# Altium footprint library lqfp.PcbLib: 7 footprints
Each footprint in its own frame and in the unit in brackets; x right, y up, seen from the top. Pads: shape width x height; smd on the part's side, far side on the other; paste and mask are expansions set on the pad; w line width, h text height; cw(c..) or ccw(c..) is an arc to the next point about the centre after c.
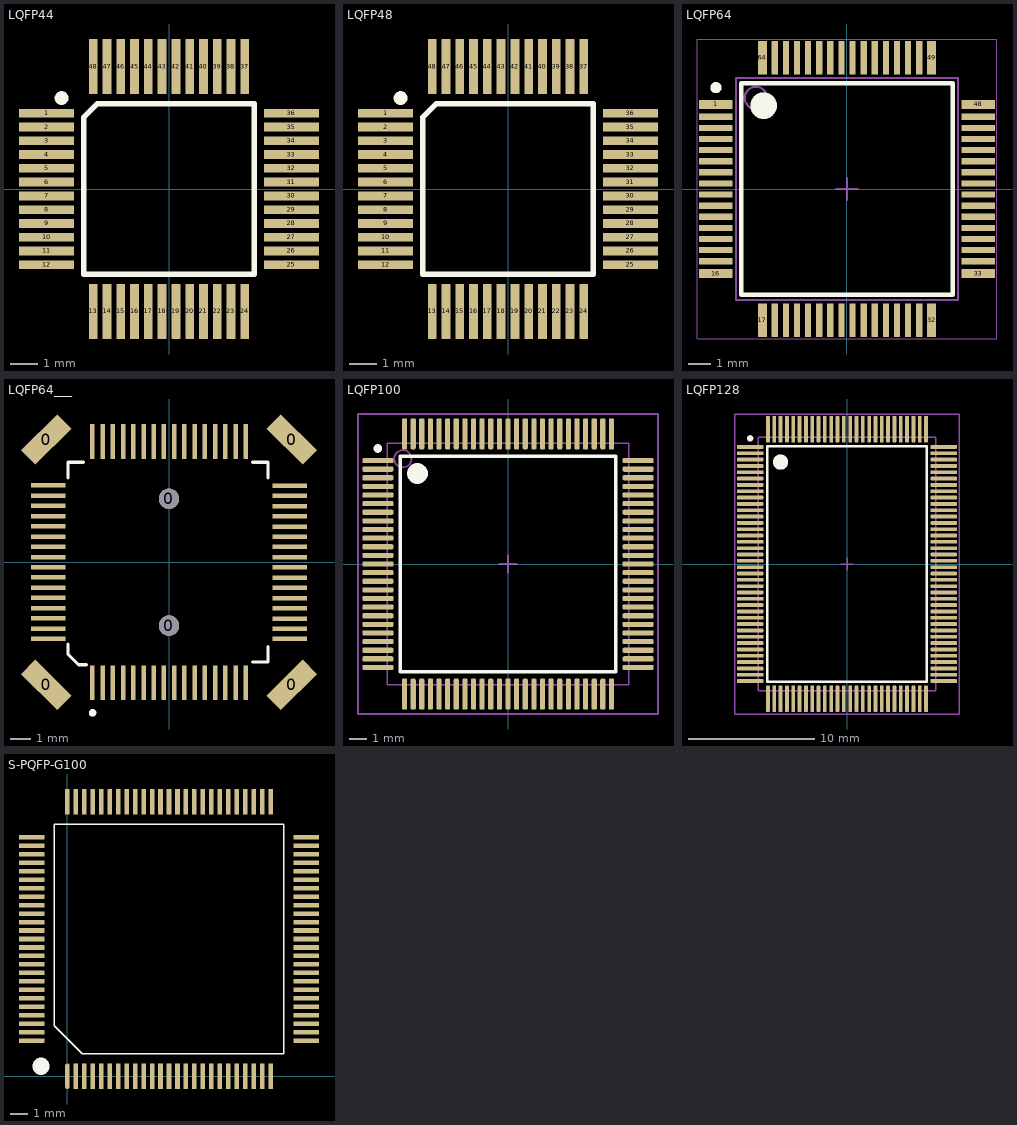
[diagram p0: the footprints below, top view; thin cyan lines are the x and y axes]

## LQFP44 [mm] "QFP; 44 Leads"
height 1.6
pads (48):
  rect 2x0.32 smd: 1(-4.445,2.75) 2(-4.445,2.25) 3(-4.445,1.75) 4(-4.445,1.25) 5(-4.445,0.75) 6(-4.445,0.25) 7(-4.445,-0.25) 8(-4.445,-0.75) 9(-4.445,-1.25) 10(-4.445,-1.75) 11(-4.445,-2.25) 12(-4.445,-2.75) 25(4.445,-2.75) 26(4.445,-2.25) 27(4.445,-1.75) 28(4.445,-1.25) 29(4.445,-0.75) 30(4.445,-0.25) 31(4.445,0.25) 32(4.445,0.75) 33(4.445,1.25) 34(4.445,1.75) 35(4.445,2.25) 36(4.445,2.75)
  rect 0.32x2 smd: 13(-2.75,-4.445) 14(-2.25,-4.445) 15(-1.75,-4.445) 16(-1.25,-4.445) 17(-0.75,-4.445) 18(-0.25,-4.445) 19(0.25,-4.445) 20(0.75,-4.445) 21(1.25,-4.445) 22(1.75,-4.445) 23(2.25,-4.445) 24(2.75,-4.445) 37(2.75,4.445) 38(2.25,4.445) 39(1.75,4.445) 40(1.25,4.445) 41(0.75,4.445) 42(0.25,4.445) 43(-0.25,4.445) 44(-0.75,4.445) 45(-1.25,4.445) 46(-1.75,4.445) 47(-2.25,4.445) 48(-2.75,4.445)
Top Overlay:
  circle w0.25: c-3.9,3.3 r0.125
  lines w0.2: -3.1,-3.1 3.1,-3.1 3.1,3.1 -2.6,3.1 -3.1,2.6 -3.1,-3.1
3D body "User Library-sot389-1.STEP": height 15.95, standoff 14.44, extent -3.556,-4.641 8.519,7.435

## LQFP48 [mm] "QFP; 48 Leads; Body 7 x 7 mm; Pitch 0.5 mm"
height 1.6
pads (48):
  rect 2x0.32 smd: 1(-4.445,2.75) 2(-4.445,2.25) 3(-4.445,1.75) 4(-4.445,1.25) 5(-4.445,0.75) 6(-4.445,0.25) 7(-4.445,-0.25) 8(-4.445,-0.75) 9(-4.445,-1.25) 10(-4.445,-1.75) 11(-4.445,-2.25) 12(-4.445,-2.75) 25(4.445,-2.75) 26(4.445,-2.25) 27(4.445,-1.75) 28(4.445,-1.25) 29(4.445,-0.75) 30(4.445,-0.25) 31(4.445,0.25) 32(4.445,0.75) 33(4.445,1.25) 34(4.445,1.75) 35(4.445,2.25) 36(4.445,2.75)
  rect 0.32x2 smd: 13(-2.75,-4.445) 14(-2.25,-4.445) 15(-1.75,-4.445) 16(-1.25,-4.445) 17(-0.75,-4.445) 18(-0.25,-4.445) 19(0.25,-4.445) 20(0.75,-4.445) 21(1.25,-4.445) 22(1.75,-4.445) 23(2.25,-4.445) 24(2.75,-4.445) 37(2.75,4.445) 38(2.25,4.445) 39(1.75,4.445) 40(1.25,4.445) 41(0.75,4.445) 42(0.25,4.445) 43(-0.25,4.445) 44(-0.75,4.445) 45(-1.25,4.445) 46(-1.75,4.445) 47(-2.25,4.445) 48(-2.75,4.445)
Top Overlay:
  circle w0.25: c-3.9,3.3 r0.125
  lines w0.2: -3.1,-3.1 -3.1,2.6 -2.6,3.1 3.1,3.1 3.1,-3.1 -3.1,-3.1
3D body "User Library-LQFP48_Grid_0_5.STEP": height 1.6, standoff 0, extent -4.5,-4.5 4.5,4.5

## LQFP64 [mm] "Thin QFP, 64-Leads, Body 10x10mm, Pitch 0.5mm, NXP Recommended"
height 1.6
pads (64):
  rect 1.5x0.4 smd: 1(-5.9,3.81) 16(-5.9,-3.81) 33(5.9,-3.81) 48(5.9,3.81)
  rect 1.5x0.28 smd: 2(-5.9,3.25) 3(-5.9,2.75) 4(-5.9,2.25) 5(-5.9,1.75) 6(-5.9,1.25) 7(-5.9,0.75) 8(-5.9,0.25) 9(-5.9,-0.25) 10(-5.9,-0.75) 11(-5.9,-1.25) 12(-5.9,-1.75) 13(-5.9,-2.25) 14(-5.9,-2.75) 15(-5.9,-3.25) 34(5.9,-3.25) 35(5.9,-2.75) 36(5.9,-2.25) 37(5.9,-1.75) 38(5.9,-1.25) 39(5.9,-0.75) 40(5.9,-0.25) 41(5.9,0.25) 42(5.9,0.75) 43(5.9,1.25) 44(5.9,1.75) 45(5.9,2.25) 46(5.9,2.75) 47(5.9,3.25)
  rect 0.4x1.5 smd: 17(-3.81,-5.9) 32(3.81,-5.9) 49(3.81,5.9) 64(-3.81,5.9)
  rect 0.28x1.5 smd: 18(-3.25,-5.9) 19(-2.75,-5.9) 20(-2.25,-5.9) 21(-1.75,-5.9) 22(-1.25,-5.9) 23(-0.75,-5.9) 24(-0.25,-5.9) 25(0.25,-5.9) 26(0.75,-5.9) 27(1.25,-5.9) 28(1.75,-5.9) 29(2.25,-5.9) 30(2.75,-5.9) 31(3.25,-5.9) 50(3.25,5.9) 51(2.75,5.9) 52(2.25,5.9) 53(1.75,5.9) 54(1.25,5.9) 55(0.75,5.9) 56(0.25,5.9) 57(-0.25,5.9) 58(-0.75,5.9) 59(-1.25,5.9) 60(-1.75,5.9) 61(-2.25,5.9) 62(-2.75,5.9) 63(-3.25,5.9)
Top Overlay:
  circle w0.25: c-5.9,4.56 r0.125
  circle w0.6: c-3.75,3.75 r0.3
  lines w0.2: -4.75,-4.75 -4.75,4.75 4.75,4.75 4.75,-4.75 -4.75,-4.75
Mechanical 13:
  circle w0.1: c-4.1,4.1 r0.5
  lines w0.1: -5,-5 -5,5 5,5 5,-5 -5,-5
Mechanical 15:
  lines w0.05: -6.75,-6.75 -6.75,6.75 6.75,6.75 6.75,-6.75 -6.75,-6.75
  lines w0.1: -0.5,0 0.5,0 ; 0,-0.5 0,0.5
3D body "User Library-lqpf64.step": height 1.5, standoff 0.02, extent -6,-6 6,6

## LQFP64___ [mm]
height 1.6
pads (70):
  rect 1x2.5 smd rot 45: 0(-6,-6) 0(6,6)
  rect 1x2.5 smd rot 135: 0(-6,6) 0(6,-6)
  round 1 hole 1 unplated: 0(0,-3.1) 0(0,3.1)
  rect 0.22x1.7 smd: 1(-3.747,-5.901) 2(-3.247,-5.901) 3(-2.747,-5.901) 4(-2.247,-5.901) 5(-1.747,-5.901) 6(-1.247,-5.901) 7(-0.747,-5.901) 8(-0.247,-5.901) 9(0.253,-5.901) 10(0.753,-5.901) 11(1.253,-5.901) 12(1.753,-5.901) 13(2.253,-5.901) 14(2.753,-5.901) 15(3.253,-5.901) 16(3.753,-5.901) 33(3.753,5.902) 34(3.253,5.902) 35(2.753,5.902) 36(2.253,5.902) 37(1.753,5.902) 38(1.253,5.902) 39(0.753,5.902) 40(0.253,5.902) 41(-0.247,5.902) 42(-0.747,5.902) 43(-1.247,5.902) 44(-1.747,5.902) 45(-2.247,5.902) 46(-2.747,5.902) 47(-3.247,5.902) 48(-3.746,5.901)
  rect 1.7x0.22 smd: 17(5.901,-3.753) 18(5.901,-3.253) 19(5.901,-2.753) 20(5.901,-2.253) 21(5.901,-1.753) 22(5.901,-1.253) 23(5.901,-0.753) 24(5.901,-0.253) 25(5.901,0.247) 26(5.901,0.747) 27(5.901,1.247) 28(5.901,1.747) 29(5.901,2.247) 30(5.901,2.747) 31(5.901,3.247) 32(5.901,3.747) 49(-5.902,3.753) 50(-5.902,3.253) 51(-5.902,2.753) 52(-5.902,2.253) 53(-5.902,1.753) 54(-5.902,1.253) 55(-5.902,0.753) 56(-5.902,0.253) 57(-5.902,-0.247) 58(-5.902,-0.747) 59(-5.902,-1.247) 60(-5.902,-1.747) 61(-5.902,-2.247) 62(-5.902,-2.746) 63(-5.902,-3.246) 64(-5.902,-3.746)
Top Overlay:
  circle w0.25: c-3.742,-7.366 r0.059
  lines w0.152: -4.938,-4 -4.938,-4.508 -4.43,-5.016 -4.049,-5.016 ; -4.938,4.128 -4.938,4.89 -4.176,4.89 ; 4.079,-4.889 4.841,-4.889 4.841,-4.127 ; 4.079,4.89 4.841,4.89 4.841,4.128
3D body "User Library-lqpf64.step": height 1.5, standoff 0.02, extent -6,-6 6,6

## LQFP100 [mm] "Thin QFP, 100-Leads, Body 14x14mm, Pitch 0.5mm, IPC Medium Density"
height 1.6
pads (100):
  rrect50% 1.8x0.3 smd: 1(-7.55,6) 2(-7.55,5.5) 3(-7.55,5) 4(-7.55,4.5) 5(-7.55,4) 6(-7.55,3.5) 7(-7.55,3) 8(-7.55,2.5) 9(-7.55,2) 10(-7.55,1.5) 11(-7.55,1) 12(-7.55,0.5) 13(-7.55,0) 14(-7.55,-0.5) 15(-7.55,-1) 16(-7.55,-1.5) 17(-7.55,-2) 18(-7.55,-2.5) 19(-7.55,-3) 20(-7.55,-3.5) 21(-7.55,-4) 22(-7.55,-4.5) 23(-7.55,-5) 24(-7.55,-5.5) 25(-7.55,-6) 51(7.55,-6) 52(7.55,-5.5) 53(7.55,-5) 54(7.55,-4.5) 55(7.55,-4) 56(7.55,-3.5) 57(7.55,-3) 58(7.55,-2.5) 59(7.55,-2) 60(7.55,-1.5) 61(7.55,-1) 62(7.55,-0.5) 63(7.55,0) 64(7.55,0.5) 65(7.55,1) 66(7.55,1.5) 67(7.55,2) 68(7.55,2.5) 69(7.55,3) 70(7.55,3.5) 71(7.55,4) 72(7.55,4.5) 73(7.55,5) 74(7.55,5.5) 75(7.55,6)
  rrect50% 0.3x1.8 smd: 26(-6,-7.55) 27(-5.5,-7.55) 28(-5,-7.55) 29(-4.5,-7.55) 30(-4,-7.55) 31(-3.5,-7.55) 32(-3,-7.55) 33(-2.5,-7.55) 34(-2,-7.55) 35(-1.5,-7.55) 36(-1,-7.55) 37(-0.5,-7.55) 38(0,-7.55) 39(0.5,-7.55) 40(1,-7.55) 41(1.5,-7.55) 42(2,-7.55) 43(2.5,-7.55) 44(3,-7.55) 45(3.5,-7.55) 46(4,-7.55) 47(4.5,-7.55) 48(5,-7.55) 49(5.5,-7.55) 50(6,-7.55) 76(6,7.55) 77(5.5,7.55) 78(5,7.55) 79(4.5,7.55) 80(4,7.55) 81(3.5,7.55) 82(3,7.55) 83(2.5,7.55) 84(2,7.55) 85(1.5,7.55) 86(1,7.55) 87(0.5,7.55) 88(0,7.55) 89(-0.5,7.55) 90(-1,7.55) 91(-1.5,7.55) 92(-2,7.55) 93(-2.5,7.55) 94(-3,7.55) 95(-3.5,7.55) 96(-4,7.55) 97(-4.5,7.55) 98(-5,7.55) 99(-5.5,7.55) 100(-6,7.55)
Top Overlay:
  circle w0.25: c-7.55,6.7 r0.125
  circle w0.6: c-5.25,5.25 r0.3
  lines w0.2: -6.25,-6.25 -6.25,6.25 6.25,6.25 6.25,-6.25 -6.25,-6.25
Mechanical 13:
  circle w0.1: c-6.1,6.1 r0.5
  lines w0.1: -7,-7 -7,7 7,7 7,-7 -7,-7
Mechanical 15:
  lines w0.1: -0.5,0 0.5,0 ; 0,-0.5 0,0.5 ; -8.7,-8.7 -8.7,8.7 8.7,8.7 8.7,-8.7 -8.7,-8.7
3D body: height 1.6, standoff 0, extent -7,-7 7,7

## LQFP128 [mm] "Thin QFP, 176-Leads, Body 20x14mm, Pitch 0.5mm, IPC Low Density"
height 1.6
pads (128):
  rrect50% 2.1x0.3 smd: 1(-7.65,9.25) 2(-7.65,8.75) 3(-7.65,8.25) 4(-7.65,7.75) 5(-7.65,7.25) 6(-7.65,6.75) 7(-7.65,6.25) 8(-7.65,5.75) 9(-7.65,5.25) 10(-7.65,4.75) 11(-7.65,4.25) 12(-7.65,3.75) 13(-7.65,3.25) 14(-7.65,2.75) 15(-7.65,2.25) 16(-7.65,1.75) 17(-7.65,1.25) 18(-7.65,0.75) 19(-7.65,0.25) 20(-7.65,-0.25) 21(-7.65,-0.75) 22(-7.65,-1.25) 23(-7.65,-1.75) 24(-7.65,-2.25) 25(-7.65,-2.75) 26(-7.65,-3.25) 27(-7.65,-3.75) 28(-7.65,-4.25) 29(-7.65,-4.75) 30(-7.65,-5.25) 31(-7.65,-5.75) 32(-7.65,-6.25) 33(-7.65,-6.75) 34(-7.65,-7.25) 35(-7.65,-7.75) 36(-7.65,-8.25) 37(-7.65,-8.75) 38(-7.65,-9.25) 65(7.65,-9.25) 66(7.65,-8.75) 67(7.65,-8.25) 68(7.65,-7.75) 69(7.65,-7.25) 70(7.65,-6.75) 71(7.65,-6.25) 72(7.65,-5.75) 73(7.65,-5.25) 74(7.65,-4.75) 75(7.65,-4.25) 76(7.65,-3.75) 77(7.65,-3.25) 78(7.65,-2.75) 79(7.65,-2.25) 80(7.65,-1.75) 81(7.65,-1.25) 82(7.65,-0.75) 83(7.65,-0.25) 84(7.65,0.25) 85(7.65,0.75) 86(7.65,1.25) 87(7.65,1.75) 88(7.65,2.25) 89(7.65,2.75) 90(7.65,3.25) 91(7.65,3.75) 92(7.65,4.25) 93(7.65,4.75) 94(7.65,5.25) 95(7.65,5.75) 96(7.65,6.25) 97(7.65,6.75) 98(7.65,7.25) 99(7.65,7.75) 100(7.65,8.25) 101(7.65,8.75) 102(7.65,9.25)
  rrect50% 0.3x2.1 smd: 39(-6.25,-10.65) 40(-5.75,-10.65) 41(-5.25,-10.65) 42(-4.75,-10.65) 43(-4.25,-10.65) 44(-3.75,-10.65) 45(-3.25,-10.65) 46(-2.75,-10.65) 47(-2.25,-10.65) 48(-1.75,-10.65) 49(-1.25,-10.65) 50(-0.75,-10.65) 51(-0.25,-10.65) 52(0.25,-10.65) 53(0.75,-10.65) 54(1.25,-10.65) 55(1.75,-10.65) 56(2.25,-10.65) 57(2.75,-10.65) 58(3.25,-10.65) 59(3.75,-10.65) 60(4.25,-10.65) 61(4.75,-10.65) 62(5.25,-10.65) 63(5.75,-10.65) 64(6.25,-10.65) 103(6.25,10.65) 104(5.75,10.65) 105(5.25,10.65) 106(4.75,10.65) 107(4.25,10.65) 108(3.75,10.65) 109(3.25,10.65) 110(2.75,10.65) 111(2.25,10.65) 112(1.75,10.65) 113(1.25,10.65) 114(0.75,10.65) 115(0.25,10.65) 116(-0.25,10.65) 117(-0.75,10.65) 118(-1.25,10.65) 119(-1.75,10.65) 120(-2.25,10.65) 121(-2.75,10.65) 122(-3.25,10.65) 123(-3.75,10.65) 124(-4.25,10.65) 125(-4.75,10.65) 126(-5.25,10.65) 127(-5.75,10.65) 128(-6.25,10.65)
Top Overlay:
  circle w0.6: c-5.25,8.05 r0.3
  circle w0.25: c-7.65,9.925 r0.125
  lines w0.2: -6.3,-9.3 6.3,-9.3 6.3,9.3 -6.3,9.3 -6.3,-9.3
Mechanical 13:
  circle w0.1: c-5.25,8.05 r0.5
  lines w0.1: -7,-10 7,-10 7,10 -7,10 -7,-10
Mechanical 15:
  lines w0.1: -0.5,0 0.5,0 ; 0,-0.5 0,0.5 ; -8.85,-11.85 8.85,-11.85 8.85,11.85 -8.85,11.85 -8.85,-11.85
3D body: height 1.6, standoff 0, extent -7,-10 7,10

## S-PQFP-G100 [mm]
height 1.45
pads (100):
  oval 0.27x1.5 smd: 1(0,0)
  rect 0.27x1.5 smd: 2(0.5,0) 3(1,0) 4(1.5,0) 5(2,0) 6(2.5,0) 7(3,0) 8(3.5,0) 9(4,0) 10(4.5,0) 11(5,0) 12(5.5,0) 13(6,0) 14(6.5,0) 15(7,0) 16(7.5,0) 17(8,0) 18(8.5,0) 19(9,0) 20(9.5,0) 21(10,0) 22(10.5,0) 23(11,0) 24(11.5,0) 25(12,0) 51(12,16.2) 52(11.5,16.2) 53(11,16.2) 54(10.5,16.2) 55(10,16.2) 56(9.5,16.2) 57(9,16.2) 58(8.5,16.2) 59(8,16.2) 60(7.5,16.2) 61(7,16.2) 62(6.5,16.2) 63(6,16.2) 64(5.5,16.2) 65(5,16.2) 66(4.5,16.2) 67(4,16.2) 68(3.5,16.2) 69(3,16.2) 70(2.5,16.2) 71(2,16.2) 72(1.5,16.2) 73(1,16.2) 74(0.5,16.2) 75(0,16.2)
  rect 1.5x0.27 smd: 26(14.1,2.1) 27(14.1,2.6) 28(14.1,3.1) 29(14.1,3.6) 30(14.1,4.1) 31(14.1,4.6) 32(14.1,5.1) 33(14.1,5.6) 34(14.1,6.1) 35(14.1,6.6) 36(14.1,7.1) 37(14.1,7.6) 38(14.1,8.1) 39(14.1,8.6) 40(14.1,9.1) 41(14.1,9.6) 42(14.1,10.1) 43(14.1,10.6) 44(14.1,11.1) 45(14.1,11.6) 46(14.1,12.1) 47(14.1,12.6) 48(14.1,13.1) 49(14.1,13.6) 50(14.1,14.1) 76(-2.1,14.1) 77(-2.1,13.6) 78(-2.1,13.1) 79(-2.1,12.6) 80(-2.1,12.1) 81(-2.1,11.6) 82(-2.1,11.1) 83(-2.1,10.6) 84(-2.1,10.1) 85(-2.1,9.6) 86(-2.1,9.1) 87(-2.1,8.6) 88(-2.1,8.1) 89(-2.1,7.6) 90(-2.1,7.1) 91(-2.1,6.6) 92(-2.1,6.1) 93(-2.1,5.6) 94(-2.1,5.1) 95(-2.1,4.6) 96(-2.1,4.1) 97(-2.1,3.6) 98(-2.1,3.1) 99(-2.1,2.6) 100(-2.1,2.1)
Top Overlay:
  lines w0.1: -0.765,2.99 0.89,1.335 12.765,1.335 12.765,14.865 -0.765,14.865 -0.765,2.99
  lines w1: -1.55,0.575 -1.55,0.6
3D body: height 1.45, standoff 0, extent -0.766,1.325 12.765,14.865